# Altium footprint library TEST&JUMPER.PcbLib: 47 footprints (part 1 of 3)
Each footprint in its own frame and in the unit in brackets; x right, y up, seen from the top. Pads: shape width x height; smd on the part's side, far side on the other; paste and mask are expansions set on the pad; w line width, h text height; cw(c..) or ccw(c..) is an arc to the next point about the centre after c.
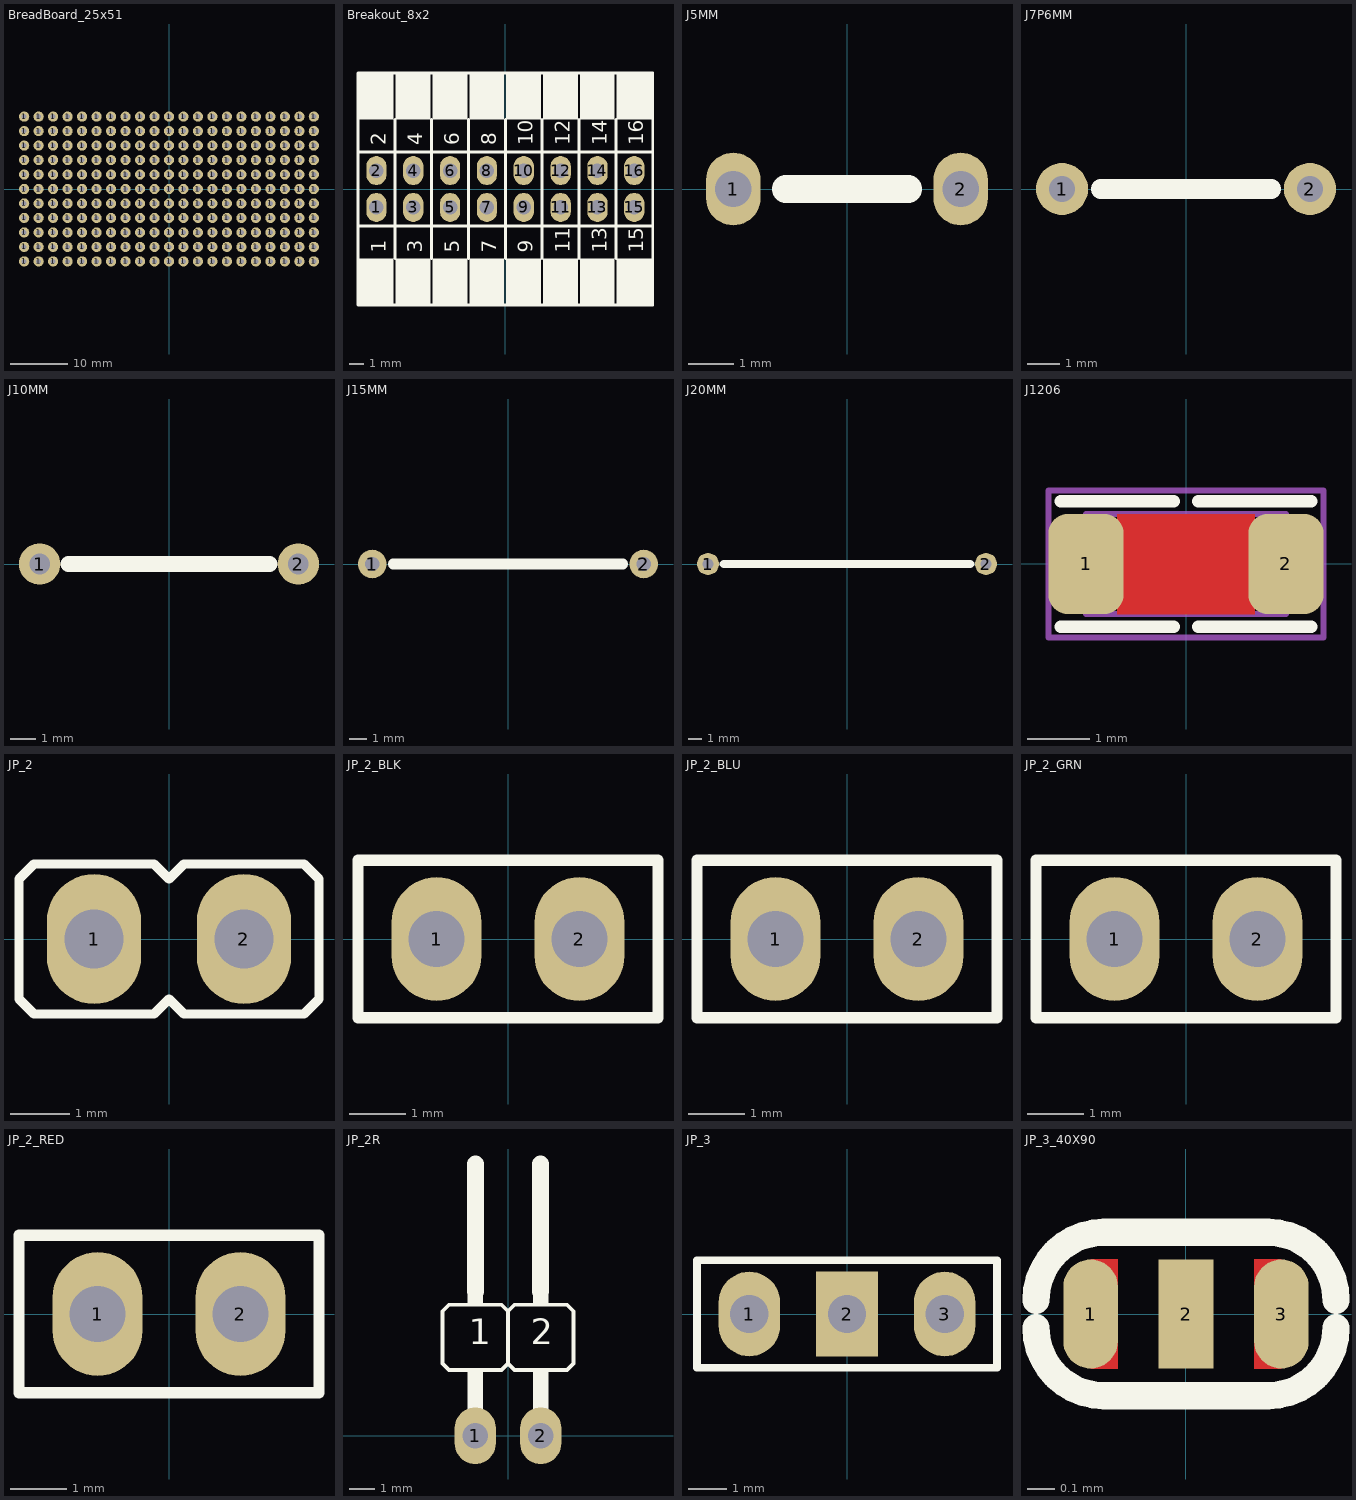
[diagram p0: the footprints below, top view; thin cyan lines are the x and y axes]

## BreadBoard_25x51 [mm] "Small 1\"x2\" breadboard section"
pads (231):
  round 1.8 hole 0.9: 1(-25.4,-12.7) 1(-25.4,-10.16) 1(-25.4,-7.62) 1(-25.4,-5.08) 1(-25.4,-2.54) 1(-25.4,0) 1(-25.4,2.54) 1(-25.4,5.08) 1(-25.4,7.62) 1(-25.4,10.16) 1(-25.4,12.7) 1(-22.86,-12.7) 1(-22.86,-10.16) 1(-22.86,-7.62) 1(-22.86,-5.08) 1(-22.86,-2.54) 1(-22.86,0) 1(-22.86,2.54) 1(-22.86,5.08) 1(-22.86,7.62) 1(-22.86,10.16) 1(-22.86,12.7) 1(-20.32,-12.7) 1(-20.32,-10.16) 1(-20.32,-7.62) 1(-20.32,-5.08) 1(-20.32,-2.54) 1(-20.32,0) 1(-20.32,2.54) 1(-20.32,5.08) 1(-20.32,7.62) 1(-20.32,10.16) 1(-20.32,12.7) 1(-17.78,-12.7) 1(-17.78,-10.16) 1(-17.78,-7.62) 1(-17.78,-5.08) 1(-17.78,-2.54) 1(-17.78,0) 1(-17.78,2.54) 1(-17.78,5.08) 1(-17.78,7.62) 1(-17.78,10.16) 1(-17.78,12.7) 1(-15.24,-12.7) 1(-15.24,-10.16) 1(-15.24,-7.62) 1(-15.24,-5.08) 1(-15.24,-2.54) 1(-15.24,0) 1(-15.24,2.54) 1(-15.24,5.08) 1(-15.24,7.62) 1(-15.24,10.16) 1(-15.24,12.7) 1(-12.7,-12.7) 1(-12.7,-10.16) 1(-12.7,-7.62) 1(-12.7,-5.08) 1(-12.7,-2.54) 1(-12.7,0) 1(-12.7,2.54) 1(-12.7,5.08) 1(-12.7,7.62) 1(-12.7,10.16) 1(-12.7,12.7) 1(-10.16,-12.7) 1(-10.16,-10.16) 1(-10.16,-7.62) 1(-10.16,-5.08) 1(-10.16,-2.54) 1(-10.16,0) 1(-10.16,2.54) 1(-10.16,5.08) 1(-10.16,7.62) 1(-10.16,10.16) 1(-10.16,12.7) 1(-7.62,-12.7) 1(-7.62,-10.16) 1(-7.62,-7.62) 1(-7.62,-5.08) 1(-7.62,-2.54) 1(-7.62,0) 1(-7.62,2.54) 1(-7.62,5.08) 1(-7.62,7.62) 1(-7.62,10.16) 1(-7.62,12.7) 1(-5.08,-12.7) 1(-5.08,-10.16) 1(-5.08,-7.62) 1(-5.08,-5.08) 1(-5.08,-2.54) 1(-5.08,0) 1(-5.08,2.54) 1(-5.08,5.08) 1(-5.08,7.62) 1(-5.08,10.16) 1(-5.08,12.7) 1(-2.54,-12.7) 1(-2.54,-10.16) 1(-2.54,-7.62) 1(-2.54,-5.08) 1(-2.54,-2.54) 1(-2.54,0) 1(-2.54,2.54) 1(-2.54,5.08) 1(-2.54,7.62) 1(-2.54,10.16) 1(-2.54,12.7) 1(0,-12.7) 1(0,-10.16) 1(0,-7.62) 1(0,-5.08) 1(0,-2.54) 1(0,0) 1(0,2.54) 1(0,5.08) 1(0,7.62) 1(0,10.16) 1(0,12.7) 1(2.54,-12.7) 1(2.54,-10.16) 1(2.54,-7.62) 1(2.54,-5.08) 1(2.54,-2.54) 1(2.54,0) 1(2.54,2.54) 1(2.54,5.08) 1(2.54,7.62) 1(2.54,10.16) 1(2.54,12.7) 1(5.08,-12.7) 1(5.08,-10.16) 1(5.08,-7.62) 1(5.08,-5.08) 1(5.08,-2.54) 1(5.08,0) 1(5.08,2.54) 1(5.08,5.08) 1(5.08,7.62) 1(5.08,10.16) 1(5.08,12.7) 1(7.62,-12.7) 1(7.62,-10.16) 1(7.62,-7.62) 1(7.62,-5.08) 1(7.62,-2.54) 1(7.62,0) 1(7.62,2.54) 1(7.62,5.08) 1(7.62,7.62) 1(7.62,10.16) 1(7.62,12.7) 1(10.16,-12.7) 1(10.16,-10.16) 1(10.16,-7.62) 1(10.16,-5.08) 1(10.16,-2.54) 1(10.16,0) 1(10.16,2.54) 1(10.16,5.08) 1(10.16,7.62) 1(10.16,10.16) 1(10.16,12.7) 1(12.7,-12.7) 1(12.7,-10.16) 1(12.7,-7.62) 1(12.7,-5.08) 1(12.7,-2.54) 1(12.7,0) 1(12.7,2.54) 1(12.7,5.08) 1(12.7,7.62) 1(12.7,10.16) 1(12.7,12.7) 1(15.24,-12.7) 1(15.24,-10.16) 1(15.24,-7.62) 1(15.24,-5.08) 1(15.24,-2.54) 1(15.24,0) 1(15.24,2.54) 1(15.24,5.08) 1(15.24,7.62) 1(15.24,10.16) 1(15.24,12.7) 1(17.78,-12.7) 1(17.78,-10.16) 1(17.78,-7.62) 1(17.78,-5.08) 1(17.78,-2.54) 1(17.78,0) 1(17.78,2.54) 1(17.78,5.08) 1(17.78,7.62) 1(17.78,10.16) 1(17.78,12.7) 1(20.32,-12.7) 1(20.32,-10.16) 1(20.32,-7.62) 1(20.32,-5.08) 1(20.32,-2.54) 1(20.32,0) 1(20.32,2.54) 1(20.32,5.08) 1(20.32,7.62) 1(20.32,10.16) 1(20.32,12.7) 1(22.86,-12.7) 1(22.86,-10.16) 1(22.86,-7.62) 1(22.86,-5.08) 1(22.86,-2.54) 1(22.86,0) 1(22.86,2.54) 1(22.86,5.08) 1(22.86,7.62) 1(22.86,10.16) 1(22.86,12.7) 1(25.4,-12.7) 1(25.4,-10.16) 1(25.4,-7.62) 1(25.4,-5.08) 1(25.4,-2.54) 1(25.4,0) 1(25.4,2.54) 1(25.4,5.08) 1(25.4,7.62) 1(25.4,10.16) 1(25.4,12.7)

## Breakout_8x2 [mm] "Small DAQ breakout for hookup to breadboard section"
pads (16):
  oval 1.4x2 hole 1: 1(-8.89,-1.27) 2(-8.89,1.27) 3(-6.35,-1.27) 4(-6.35,1.27) 5(-3.81,-1.27) 6(-3.81,1.27) 7(-1.27,-1.27) 8(-1.27,1.27) 9(1.27,-1.27) 10(1.27,1.27) 11(3.81,-1.27) 12(3.81,1.27) 13(6.35,-1.27) 14(6.35,1.27) 15(8.89,-1.27) 16(8.89,1.27)
Top Overlay:
  rectangle: -10.1,4.8 -7.7,8
  rectangle: -7.56,4.8 -5.16,8
  rectangle: -5.02,4.8 -2.62,8
  rectangle: -2.48,4.8 -0.08,8
  rectangle: 0.06,4.8 2.46,8
  rectangle: 2.6,4.8 5,8
  rectangle: 5.14,4.8 7.54,8
  rectangle: 7.68,4.8 10.08,8
  rectangle: 7.68,-8 10.08,-4.8
  rectangle: 5.14,-8 7.54,-4.8
  rectangle: 2.6,-8 5,-4.8
  rectangle: 0.06,-8 2.46,-4.8
  rectangle: -2.48,-8 -0.08,-4.8
  rectangle: -5.02,-8 -2.62,-4.8
  rectangle: -7.56,-8 -5.16,-4.8
  rectangle: -10.1,-8 -7.7,-4.8
  lines w0.2: -7.62,-4.8 -7.62,4.8 ; -5.08,-4.8 -5.08,4.8 ; -2.54,-4.8 -2.54,4.8 ; 0,-4.8 0,4.8 ; 2.54,-4.8 2.54,4.8 ; 5.08,-4.8 5.08,4.8 ; 7.62,-4.8 7.62,4.8 ; -10.16,-2.54 -10.16,-8 10.16,-8 10.16,-2.54 ; -10.16,-2.54 -10.16,2.54 ; -10.16,-2.54 10.16,-2.54 ; -10.16,2.54 -10.16,8 10.16,8 10.16,2.54 ; -10.16,2.54 10.16,2.54 ; 10.16,-2.54 10.16,2.54
  text "6" at -3.175,3 h1
  text "5" at -3.175,-4.4 h1
  text "1" at -8.255,-4.4 h1
  text "3" at -5.715,-4.4 h1
  text "7" at -0.635,-4.4 h1
  text "8" at -0.635,3 h1
  text "9" at 1.905,-4.4 h1
  text "10" at 1.905,3 h1
  text "16" at 9.525,3 h1
  text "14" at 6.985,3 h1
  text "12" at 4.445,3 h1
  text "15" at 9.525,-4.4 h1
  text "13" at 6.985,-4.4 h1
  text "11" at 4.445,-4.4 h1
  text "4" at -5.715,3 h1
  text "2" at -8.255,3 h1

## J5MM [mm] "5.08 mm (200mil) Jumper wire"
pads (2):
  oval 1.2x1.6 hole 0.8: 1(-2.5,0) 2(2.5,0)
Top Overlay:
  lines w0.61: -1.346,0 1.346,0
3D body: height 0.5, standoff -2, extent 2.19,-0.35 2.89,0.35
3D body: height 0.5, standoff -2, extent -2.89,-0.35 -2.19,0.35
3D body: height 0.85, standoff 0.15, extent -2.54,-0.35 2.54,0.35
3D body: height 0.85, standoff 0.15, extent 2.19,-0.35 2.89,0.35
3D body: height 0.85, standoff 0.15, extent -2.89,-0.35 -2.19,0.35

## J7P6MM [mm] "7.62 mm (300 mil) Jumper wire"
pads (2):
  round 1.6 hole 0.8: 1(-3.8,0) 2(3.8,0)
Top Overlay:
  lines w0.61: -2.616,0 2.616,0
3D body: height 0.5, standoff -2, extent 3.46,-0.351 4.16,0.348
3D body: height 0.5, standoff -2, extent -4.16,-0.35 -3.46,0.35
3D body: height 0.85, standoff 0.15, extent -3.81,-0.347 3.81,0.35
3D body: height 0.85, standoff 0.15, extent 3.46,-0.351 4.16,0.349
3D body: height 0.85, standoff 0.15, extent -4.16,-0.35 -3.46,0.35

## J10MM [mm] "10.16 mm (400 mil) Jumper wire"
pads (2):
  round 1.6 hole 0.8: 1(-5,0) 2(5,0)
Top Overlay:
  lines w0.61: -3.886,0 3.886,0
3D body: height 0.5, standoff -2, extent 4.57,-0.348 5.27,0.351
3D body: height 0.5, standoff -2, extent -5.35,-0.35 -4.65,0.35
3D body: height 0.85, standoff 0.15, extent -5.08,-0.347 4.92,0.35
3D body: height 0.85, standoff 0.15, extent 4.57,-0.348 5.27,0.352
3D body: height 0.85, standoff 0.15, extent -5.35,-0.35 -4.65,0.35

## J15MM [mm] "15.24 mm (600 mil) Jumper wire"
pads (2):
  round 1.6 hole 0.8: 1(-7.6,0) 2(7.6,0)
Top Overlay:
  lines w0.61: -6.426,0 6.426,0
3D body: height 0.85, standoff 0.15, extent -7.97,-0.35 -7.27,0.35
3D body: height 0.85, standoff 0.15, extent 7.27,-0.35 7.97,0.35
3D body: height 0.85, standoff 0.15, extent -7.62,-0.347 7.62,0.35
3D body: height 0.5, standoff -2, extent -7.97,-0.35 -7.27,0.35
3D body: height 0.5, standoff -2, extent 7.27,-0.35 7.97,0.35

## J20MM [mm] "20.32 mm (800 mil) Jumper wire"
pads (2):
  round 1.6 hole 0.8: 1(-10.1,0) 2(10.1,0)
Top Overlay:
  lines w0.61: -8.966,0 8.966,0
3D body: height 0.5, standoff -2, extent 9.81,-0.35 10.51,0.35
3D body: height 0.5, standoff -2, extent -10.51,-0.35 -9.81,0.35
3D body: height 0.85, standoff 0.15, extent -10.16,-0.347 10.16,0.35
3D body: height 0.85, standoff 0.15, extent 9.81,-0.35 10.51,0.35
3D body: height 0.85, standoff 0.15, extent -10.51,-0.35 -9.81,0.35

## J1206 [mm] "CHIP RESISTOR 1/4 WATT, Body 3.2x1.6mm,1206"
height 2
pads (2):
  rrect50% 1.2x1.6 smd mask+0.075: 1(-1.6,0) 2(1.6,0)
Top Layer:
  pour cut-out: -1.1,0.8 -1.1,-0.8 1.1,-0.8 1.1,0.8
Top Overlay:
  lines w0.2: -2,-1 -0.2,-1 ; -2,1 -0.2,1 ; 0.2,-1 2,-1 ; 0.2,1 2,1
Mechanical 13:
  lines w0.1: -1.6,-0.8 -1.6,0.8 1.6,0.8 1.6,-0.8 -1.6,-0.8
Mechanical 15:
  lines w0.1: -0.5,0 0.5,0 ; 0,-0.5 0,0.5 ; -2.2,-1.175 -2.2,1.175 2.2,1.175 2.2,-1.175 -2.2,-1.175
3D body "User Library-RES_3216-1206.step": height 0.85, standoff 0, extent -1.675,-0.865 1.675,0.865

## JP_2 [mm] "Jumper Header 2.54mm Pitch, Vertical"
height 10
pads (2):
  oval 1.6x2.2 hole 1: 1(-1.27,0) 2(1.27,0)
Top Overlay:
  lines w0.152: -2.54,-1.016 -2.286,-1.27 -0.254,-1.27 0,-1.016 0.254,-1.27 2.286,-1.27 2.54,-1.016 2.54,1.016 2.286,1.27 0.254,1.27 0,1.016 -0.254,1.27 -2.286,1.27 -2.54,1.016 -2.54,-1.016
3D body "pin_header_aw140-eg-g02d.stp": height 8.2, standoff -3, extent -2.44,-1.25 2.54,1.25

## JP_2_BLK [mm] "Jumper Header 2.54mm Pitch, Vertical, BLACK"
height 7.62
pads (2):
  oval 1.6x2.2 hole 1: 1(-1.27,0) 2(1.27,0)
Top Overlay:
  lines w0.2: -2.67,-1.4 -2.67,1.4 2.67,1.4 2.67,-1.4 -2.67,-1.4
3D body "header02.STEP": height 8.38, standoff -2.54, extent -2.54,-1.27 2.54,1.27
3D body "jumper_akspt_g-red.STEP": height 8.57, standoff 2.6, extent -2.49,-1.22 2.49,1.22

## JP_2_BLU [mm] "Jumper Header 2.54mm Pitch, Vertical, BLUE"
pads (2):
  oval 1.6x2.2 hole 1: 1(-1.27,0) 2(1.27,0)
Top Overlay:
  lines w0.2: -2.67,-1.4 -2.67,1.4 2.67,1.4 2.67,-1.4 -2.67,-1.4
3D body "header02.STEP": height 8.38, standoff -2.54, extent -2.54,-1.27 2.54,1.27
3D body "jumper_akspt_z-blue.STEP": height 8.57, standoff 2.6, extent -2.49,-1.22 2.49,1.22

## JP_2_GRN [mm] "Jumper Header 2.54mm Pitch, Vertical, GREEN"
height 7.62
pads (2):
  oval 1.6x2.2 hole 1: 1(-1.27,0) 2(1.27,0)
Top Overlay:
  lines w0.2: -2.67,-1.4 -2.67,1.4 2.67,1.4 2.67,-1.4 -2.67,-1.4
3D body "header02.STEP": height 8.38, standoff -2.54, extent -2.54,-1.27 2.54,1.27
3D body "jumper_akspt_g-red.STEP": height 8.57, standoff 2.6, extent -2.49,-1.22 2.49,1.22

## JP_2_RED [mm] "Jumper Header 2.54mm Pitch, Vertical, RED"
pads (2):
  oval 1.6x2.2 hole 1: 1(-1.27,0) 2(1.27,0)
Top Overlay:
  lines w0.2: -2.67,-1.4 2.67,-1.4 2.67,1.4 -2.67,1.4 -2.67,-1.4
3D body "jumper_akspt_g-red.STEP": height 8.57, standoff 2.6, extent -2.49,-1.22 2.49,1.22
3D body "header02.STEP": height 8.38, standoff -2.54, extent -2.54,-1.27 2.54,1.27

## JP_2R [mm] "Jumper Header 2.54mm Pitch, Horizontal"
pads (2):
  oval 1.6x2.2 hole 1: 1(-1.27,0) 2(1.27,0)
Top Overlay:
  rectangle: -1.575,5.08 -0.965,5.588
  rectangle: 0.965,5.08 1.575,5.588
  rectangle: 0.965,1.016 1.575,2.54
  rectangle: -1.575,1.016 -0.965,2.54
  lines w0.152: 0,2.794 -0.254,2.54 -2.286,2.54 -2.54,2.794 -2.54,4.826 -2.286,5.08 -0.254,5.08 0,4.826 ; 0,2.794 0.254,2.54 2.286,2.54 2.54,2.794 2.54,4.826 2.286,5.08 0.254,5.08 0,4.826 ; 0,2.794 0,4.826
  lines w0.66: -1.27,5.588 -1.27,10.541 ; 1.27,5.588 1.27,10.541
  text "2" at 0.889,3.556 h0.99
  text "1" at -1.524,3.556 h0.99
3D body "pin_header_aw140-ea-g02g.stp": height 2.55, standoff -2.35, extent -2.44,-0.329 2.44,10.811

## JP_3 [mm] "Jumper Header 2.54mm Pitch, 3PIN, Vertical"
pads (3):
  oval 1.6x2.2 hole 1: 1(-2.54,0) 3(2.54,0)
  rect 1.6x2.2 hole 1: 2(0,0)
Top Overlay:
  lines w0.2: -3.9,-1.4 3.9,-1.4 3.9,1.4 -3.9,1.4 -3.9,-1.4
3D body "jumper_akspt_g-red.STEP": height 8.57, standoff 2.6, extent -3.76,-1.22 1.22,1.22
3D body "Header3.STEP": height 8.38, standoff -2.54, extent -3.82,-1.27 3.8,1.27

## JP_3_40X90 [mm] "JUMPER SOLDER 0.4X0.9MM"
height 0.6
pads (3):
  oval 0.2x0.4 smd mask+0.05: 1(-0.35,0) 3(0.35,0)
  rect 0.2x0.4 smd mask+0.05: 2(0,0)
Top Layer:
  region: 0.35,0.2 0.25,0.2 0.25,-0.2 0.35,-0.2
  region: -0.35,0.2 -0.25,0.2 -0.25,-0.2 -0.35,-0.2
Top Overlay:
  lines w0.1: -0.55,-0.05 ccw(c-0.3,-0.05) -0.3,-0.3 0.3,-0.3 ccw(c0.3,-0.05) 0.55,-0.05 ; -0.55,0.05 cw(c-0.3,0.05) -0.3,0.3 0.3,0.3 cw(c0.3,0.05) 0.55,0.05
Top Solder:
  region: -0.35,-0.25 -0.35,0.25 0.35,0.25 0.35,-0.25